# EAGLE library part FGPMMOPA6H_GTPA013 (library GlobalTop)
Datasheet:http://www.adafruit.com/datasheets/GlobalTop-FGPMMOPA6H-Datasheet-V0A.pdf
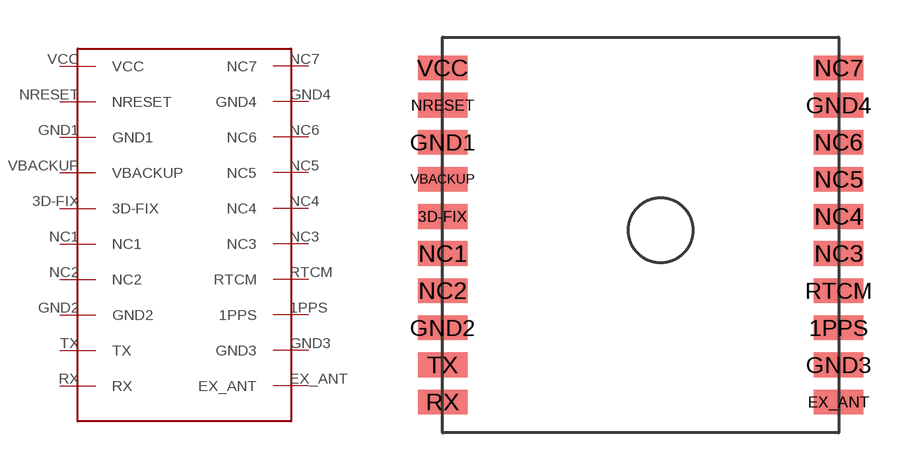
[diagram p0: symbol with the pads of FGPMMOPA6H_GTPA013; footprint FGPMMOPA6H_GTPA013]

Designator prefix -

## FGPMMOPA6H_GTPA013 (PARTNO: FGMMOPA6H_GTPA013)  [FGPMMOPA6H_GTPA013]
1PPS  1PPS
3D-FIX  3D-FIX
EX_ANT  EX_ANT
GND1  GND1
GND2  GND2
GND3  GND3
GND4  GND4
NC1  NC1
NC2  NC2
NC3  NC3
NC4  NC4
NC5  NC5
NC6  NC6
NC7  NC7
NRESET  NRESET
RTCM  RTCM
RX  RX
TX  TX
VBACKUP  VBACKUP
VCC  VCC

## Footprint FGPMMOPA6H_GTPA013 (pad centres in mm)
FGPMMOPA6H GTPA013 GPS Chip Datasheet: http://www.adafruit.com/datasheets/GlobalTop-FGPMMOPA6H-Datasheet-V0A.pdf Nate Derry 1/25/15
smd 2 x 1: 1PPS 8,-3.75; 3D-FIX -8,0.75; EX_ANT 8,-6.75; GND1 -8,3.75; GND2 -8,-3.75; GND3 8,-5.25; GND4 8,5.25; NC1 -8,-0.75; NC2 -8,-2.25; NC3 8,-0.75; NC4 8,0.75; NC5 8,2.25; NC6 8,3.75; NC7 8,6.75; NRESET -8,5.25; RTCM 8,-2.25; RX -8,-6.75; TX -8,-5.25; VBACKUP -8,2.25; VCC -8,6.75